# Altium footprint library Connector_Samtec_HLE_SMD.PcbLib: 290 footprints (part 17 of 24)
Each footprint in its own frame and in the unit in brackets; x right, y up, seen from the top. Pads: shape width x height; smd on the part's side, far side on the other; paste and mask are expansions set on the pad; w line width, h text height; cw(c..) or ccw(c..) is an arc to the next point about the centre after c.
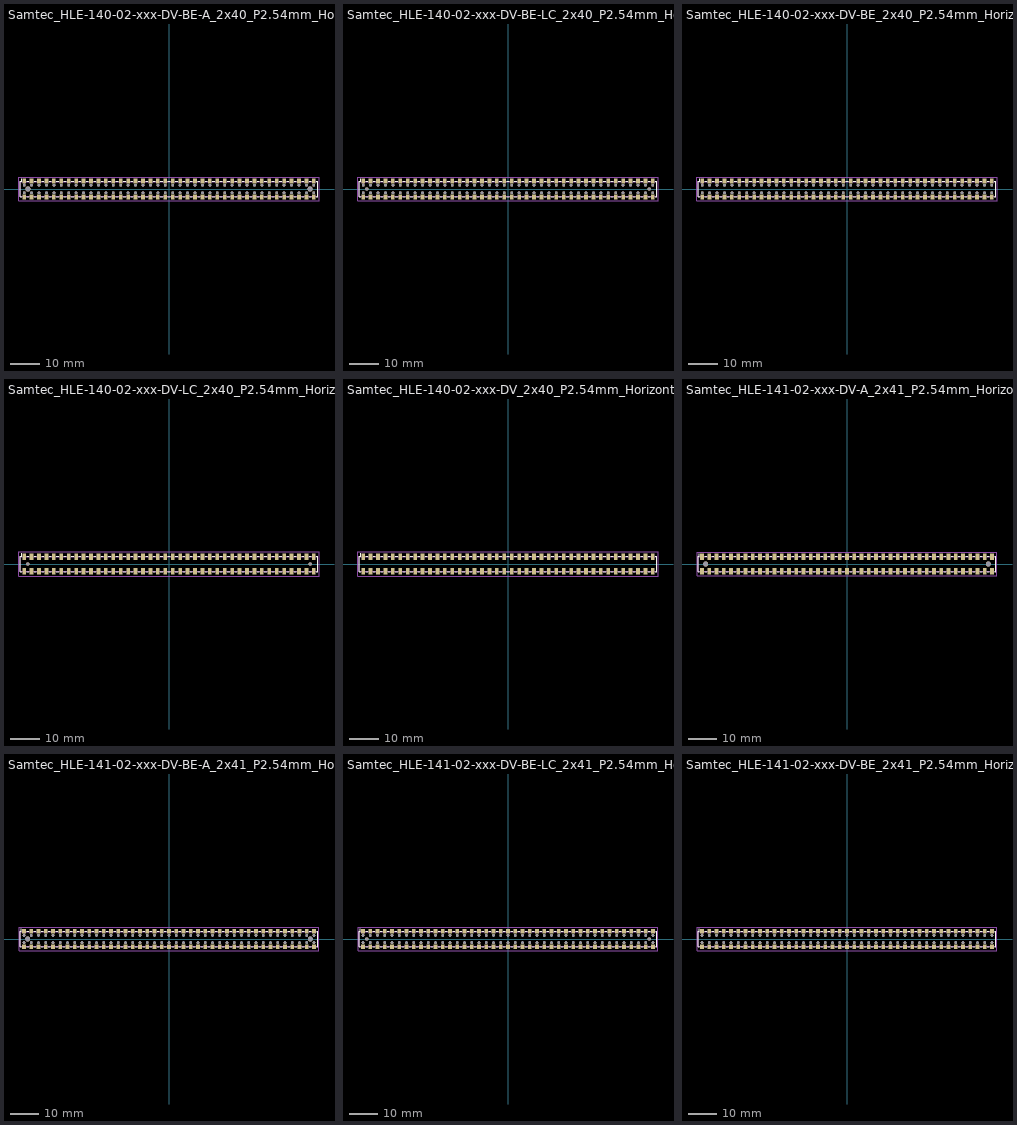
[diagram p16: the footprints below, top view; thin cyan lines are the x and y axes]

## Samtec_HLE-140-02-xxx-DV-BE-A_2x40_P2.54mm_Horizontal [mm]
pads (162):
  rect 1.27x1.68 smd: 1(-49.53,2.72) 2(-49.53,-2.72) 3(-46.99,2.72) 4(-46.99,-2.72) 5(-44.45,2.72) 6(-44.45,-2.72) 7(-41.91,2.72) 8(-41.91,-2.72) 9(-39.37,2.72) 10(-39.37,-2.72) 11(-36.83,2.72) 12(-36.83,-2.72) 13(-34.29,2.72) 14(-34.29,-2.72) 15(-31.75,2.72) 16(-31.75,-2.72) 17(-29.21,2.72) 18(-29.21,-2.72) 19(-26.67,2.72) 20(-26.67,-2.72) 21(-24.13,2.72) 22(-24.13,-2.72) 23(-21.59,2.72) 24(-21.59,-2.72) 25(-19.05,2.72) 26(-19.05,-2.72) 27(-16.51,2.72) 28(-16.51,-2.72) 29(-13.97,2.72) 30(-13.97,-2.72) 31(-11.43,2.72) 32(-11.43,-2.72) 33(-8.89,2.72) 34(-8.89,-2.72) 35(-6.35,2.72) 36(-6.35,-2.72) 37(-3.81,2.72) 38(-3.81,-2.72) 39(-1.27,2.72) 40(-1.27,-2.72) 41(1.27,2.72) 42(1.27,-2.72) 43(3.81,2.72) 44(3.81,-2.72) 45(6.35,2.72) 46(6.35,-2.72) 47(8.89,2.72) 48(8.89,-2.72) 49(11.43,2.72) 50(11.43,-2.72) 51(13.97,2.72) 52(13.97,-2.72) 53(16.51,2.72) 54(16.51,-2.72) 55(19.05,2.72) 56(19.05,-2.72) 57(21.59,2.72) 58(21.59,-2.72) 59(24.13,2.72) 60(24.13,-2.72) 61(26.67,2.72) 62(26.67,-2.72) 63(29.21,2.72) 64(29.21,-2.72) 65(31.75,2.72) 66(31.75,-2.72) 67(34.29,2.72) 68(34.29,-2.72) 69(36.83,2.72) 70(36.83,-2.72) 71(39.37,2.72) 72(39.37,-2.72) 73(41.91,2.72) 74(41.91,-2.72) 75(44.45,2.72) 76(44.45,-2.72) 77(46.99,2.72) 78(46.99,-2.72) 79(49.53,2.72) 80(49.53,-2.72)
  round 0.97 hole 0.97: Un1(-49.53,1.27) Un2(-49.53,-1.27) Un4(-46.99,1.27) Un5(-46.99,-1.27) Un6(-44.45,1.27) Un7(-44.45,-1.27) Un8(-41.91,1.27) Un9(-41.91,-1.27) Un10(-39.37,1.27) Un11(-39.37,-1.27) Un12(-36.83,1.27) Un13(-36.83,-1.27) Un14(-34.29,1.27) Un15(-34.29,-1.27) Un16(-31.75,1.27) Un17(-31.75,-1.27) Un18(-29.21,1.27) Un19(-29.21,-1.27) Un20(-26.67,1.27) Un21(-26.67,-1.27) Un22(-24.13,1.27) Un23(-24.13,-1.27) Un24(-21.59,1.27) Un25(-21.59,-1.27) Un26(-19.05,1.27) Un27(-19.05,-1.27) Un28(-16.51,1.27) Un29(-16.51,-1.27) Un30(-13.97,1.27) Un31(-13.97,-1.27) Un32(-11.43,1.27) Un33(-11.43,-1.27) Un34(-8.89,1.27) Un35(-8.89,-1.27) Un36(-6.35,1.27) Un37(-6.35,-1.27) Un38(-3.81,1.27) Un39(-3.81,-1.27) Un40(-1.27,1.27) Un41(-1.27,-1.27) Un42(1.27,1.27) Un43(1.27,-1.27) Un44(3.81,1.27) Un45(3.81,-1.27) Un46(6.35,1.27) Un47(6.35,-1.27) Un48(8.89,1.27) Un49(8.89,-1.27) Un50(11.43,1.27) Un51(11.43,-1.27) Un52(13.97,1.27) Un53(13.97,-1.27) Un54(16.51,1.27) Un55(16.51,-1.27) Un56(19.05,1.27) Un57(19.05,-1.27) Un58(21.59,1.27) Un59(21.59,-1.27) Un60(24.13,1.27) Un61(24.13,-1.27) Un62(26.67,1.27) Un63(26.67,-1.27) Un64(29.21,1.27) Un65(29.21,-1.27) Un66(31.75,1.27) Un67(31.75,-1.27) Un68(34.29,1.27) Un69(34.29,-1.27) Un70(36.83,1.27) Un71(36.83,-1.27) Un72(39.37,1.27) Un73(39.37,-1.27) Un74(41.91,1.27) Un75(41.91,-1.27) Un76(44.45,1.27) Un77(44.45,-1.27) Un78(46.99,1.27) Un79(46.99,-1.27) Un81(49.53,1.27) Un82(49.53,-1.27)
  round 1.78 hole 1.78: Un3(-48.26,0) Un80(48.26,0)
F.SilkS:
  lines w0.254: -50.425,-2.65 -50.91,-2.65 -50.91,2.65 -50.425,2.65 -50.425,3.56 ; -48.635,-2.65 -47.885,-2.65 ; -48.635,2.65 -47.885,2.65 ; -46.095,-2.65 -45.345,-2.65 ; -46.095,2.65 -45.345,2.65 ; -43.555,-2.65 -42.805,-2.65 ; -43.555,2.65 -42.805,2.65 ; -41.015,-2.65 -40.265,-2.65 ; -41.015,2.65 -40.265,2.65 ; -38.475,-2.65 -37.725,-2.65 ; -38.475,2.65 -37.725,2.65 ; -35.935,-2.65 -35.185,-2.65 ; -35.935,2.65 -35.185,2.65 ; -33.395,-2.65 -32.645,-2.65 ; -33.395,2.65 -32.645,2.65 ; -30.855,-2.65 -30.105,-2.65 ; -30.855,2.65 -30.105,2.65 ; -28.315,-2.65 -27.565,-2.65 ; -28.315,2.65 -27.565,2.65 ; -25.775,-2.65 -25.025,-2.65 ; -25.775,2.65 -25.025,2.65 ; -23.235,-2.65 -22.485,-2.65 ; -23.235,2.65 -22.485,2.65 ; -20.695,-2.65 -19.945,-2.65 ; -20.695,2.65 -19.945,2.65 ; -18.155,-2.65 -17.405,-2.65 ; -18.155,2.65 -17.405,2.65 ; -15.615,-2.65 -14.865,-2.65 ; -15.615,2.65 -14.865,2.65 ; -13.075,-2.65 -12.325,-2.65 ; -13.075,2.65 -12.325,2.65 ; -10.535,-2.65 -9.785,-2.65 ; -10.535,2.65 -9.785,2.65 ; -7.995,-2.65 -7.245,-2.65 ; -7.995,2.65 -7.245,2.65 ; -5.455,-2.65 -4.705,-2.65 ; -5.455,2.65 -4.705,2.65 ; -2.915,-2.65 -2.165,-2.65 ; -2.915,2.65 -2.165,2.65 ; -0.375,-2.65 0.375,-2.65 ; -0.375,2.65 0.375,2.65 ; 2.165,-2.65 2.915,-2.65 ; 2.165,2.65 2.915,2.65 ; 4.705,-2.65 5.455,-2.65 ; 4.705,2.65 5.455,2.65 ; 7.245,-2.65 7.995,-2.65 ; 7.245,2.65 7.995,2.65 ; 9.785,-2.65 10.535,-2.65 ; 9.785,2.65 10.535,2.65 ; 12.325,-2.65 13.075,-2.65 ; 12.325,2.65 13.075,2.65 ; 14.865,-2.65 15.615,-2.65 ; 14.865,2.65 15.615,2.65 ; 17.405,-2.65 18.155,-2.65 ; 17.405,2.65 18.155,2.65 ; 19.945,-2.65 20.695,-2.65 ; 19.945,2.65 20.695,2.65 ; 22.485,-2.65 23.235,-2.65 ; 22.485,2.65 23.235,2.65 ; 25.025,-2.65 25.775,-2.65 ; 25.025,2.65 25.775,2.65 ; 27.565,-2.65 28.315,-2.65 ; 27.565,2.65 28.315,2.65 ; 30.105,-2.65 30.855,-2.65 ; 30.105,2.65 30.855,2.65 ; 32.645,-2.65 33.395,-2.65 ; 32.645,2.65 33.395,2.65 ; 35.185,-2.65 35.935,-2.65 ; 35.185,2.65 35.935,2.65 ; 37.725,-2.65 38.475,-2.65 ; 37.725,2.65 38.475,2.65 ; 40.265,-2.65 41.015,-2.65 ; 40.265,2.65 41.015,2.65 ; 42.805,-2.65 43.555,-2.65 ; 42.805,2.65 43.555,2.65 ; 45.345,-2.65 46.095,-2.65 ; 45.345,2.65 46.095,2.65 ; 47.885,-2.65 48.635,-2.65 ; 47.885,2.65 48.635,2.65 ; 50.425,-2.65 50.91,-2.65 50.91,2.65 50.425,2.65
Top Assembly:
  lines w0.254: -50.03,2.54 -49.53,1.833 -49.03,2.54 ; -50.8,-2.54 50.8,-2.54 50.8,2.54 -50.8,2.54 -50.8,-2.54
  text "'.Designator'" at -4.047,-2.68 h1
Top Courtyard:
  lines w0.254: -51.3,-4.07 51.3,-4.07 51.3,4.07 -51.3,4.07 -51.3,-4.07
Top Designator:
  text ".Designator" at -7.618,-0.508 h1.52

## Samtec_HLE-140-02-xxx-DV-BE-LC_2x40_P2.54mm_Horizontal [mm]
pads (162):
  rect 1.27x1.68 smd: 1(-49.53,2.72) 2(-49.53,-2.72) 3(-46.99,2.72) 4(-46.99,-2.72) 5(-44.45,2.72) 6(-44.45,-2.72) 7(-41.91,2.72) 8(-41.91,-2.72) 9(-39.37,2.72) 10(-39.37,-2.72) 11(-36.83,2.72) 12(-36.83,-2.72) 13(-34.29,2.72) 14(-34.29,-2.72) 15(-31.75,2.72) 16(-31.75,-2.72) 17(-29.21,2.72) 18(-29.21,-2.72) 19(-26.67,2.72) 20(-26.67,-2.72) 21(-24.13,2.72) 22(-24.13,-2.72) 23(-21.59,2.72) 24(-21.59,-2.72) 25(-19.05,2.72) 26(-19.05,-2.72) 27(-16.51,2.72) 28(-16.51,-2.72) 29(-13.97,2.72) 30(-13.97,-2.72) 31(-11.43,2.72) 32(-11.43,-2.72) 33(-8.89,2.72) 34(-8.89,-2.72) 35(-6.35,2.72) 36(-6.35,-2.72) 37(-3.81,2.72) 38(-3.81,-2.72) 39(-1.27,2.72) 40(-1.27,-2.72) 41(1.27,2.72) 42(1.27,-2.72) 43(3.81,2.72) 44(3.81,-2.72) 45(6.35,2.72) 46(6.35,-2.72) 47(8.89,2.72) 48(8.89,-2.72) 49(11.43,2.72) 50(11.43,-2.72) 51(13.97,2.72) 52(13.97,-2.72) 53(16.51,2.72) 54(16.51,-2.72) 55(19.05,2.72) 56(19.05,-2.72) 57(21.59,2.72) 58(21.59,-2.72) 59(24.13,2.72) 60(24.13,-2.72) 61(26.67,2.72) 62(26.67,-2.72) 63(29.21,2.72) 64(29.21,-2.72) 65(31.75,2.72) 66(31.75,-2.72) 67(34.29,2.72) 68(34.29,-2.72) 69(36.83,2.72) 70(36.83,-2.72) 71(39.37,2.72) 72(39.37,-2.72) 73(41.91,2.72) 74(41.91,-2.72) 75(44.45,2.72) 76(44.45,-2.72) 77(46.99,2.72) 78(46.99,-2.72) 79(49.53,2.72) 80(49.53,-2.72)
  round 0.97 hole 0.97: Un1(-49.53,1.27) Un2(-49.53,-1.27) Un4(-46.99,1.27) Un5(-46.99,-1.27) Un6(-44.45,1.27) Un7(-44.45,-1.27) Un8(-41.91,1.27) Un9(-41.91,-1.27) Un10(-39.37,1.27) Un11(-39.37,-1.27) Un12(-36.83,1.27) Un13(-36.83,-1.27) Un14(-34.29,1.27) Un15(-34.29,-1.27) Un16(-31.75,1.27) Un17(-31.75,-1.27) Un18(-29.21,1.27) Un19(-29.21,-1.27) Un20(-26.67,1.27) Un21(-26.67,-1.27) Un22(-24.13,1.27) Un23(-24.13,-1.27) Un24(-21.59,1.27) Un25(-21.59,-1.27) Un26(-19.05,1.27) Un27(-19.05,-1.27) Un28(-16.51,1.27) Un29(-16.51,-1.27) Un30(-13.97,1.27) Un31(-13.97,-1.27) Un32(-11.43,1.27) Un33(-11.43,-1.27) Un34(-8.89,1.27) Un35(-8.89,-1.27) Un36(-6.35,1.27) Un37(-6.35,-1.27) Un38(-3.81,1.27) Un39(-3.81,-1.27) Un40(-1.27,1.27) Un41(-1.27,-1.27) Un42(1.27,1.27) Un43(1.27,-1.27) Un44(3.81,1.27) Un45(3.81,-1.27) Un46(6.35,1.27) Un47(6.35,-1.27) Un48(8.89,1.27) Un49(8.89,-1.27) Un50(11.43,1.27) Un51(11.43,-1.27) Un52(13.97,1.27) Un53(13.97,-1.27) Un54(16.51,1.27) Un55(16.51,-1.27) Un56(19.05,1.27) Un57(19.05,-1.27) Un58(21.59,1.27) Un59(21.59,-1.27) Un60(24.13,1.27) Un61(24.13,-1.27) Un62(26.67,1.27) Un63(26.67,-1.27) Un64(29.21,1.27) Un65(29.21,-1.27) Un66(31.75,1.27) Un67(31.75,-1.27) Un68(34.29,1.27) Un69(34.29,-1.27) Un70(36.83,1.27) Un71(36.83,-1.27) Un72(39.37,1.27) Un73(39.37,-1.27) Un74(41.91,1.27) Un75(41.91,-1.27) Un76(44.45,1.27) Un77(44.45,-1.27) Un78(46.99,1.27) Un79(46.99,-1.27) Un81(49.53,1.27) Un82(49.53,-1.27)
  round 1.19 hole 1.19: Un3(-48.26,0) Un80(48.26,0)
F.SilkS:
  lines w0.254: -50.425,-2.65 -50.91,-2.65 -50.91,2.65 -50.425,2.65 -50.425,3.56 ; -48.635,-2.65 -47.885,-2.65 ; -48.635,2.65 -47.885,2.65 ; -46.095,-2.65 -45.345,-2.65 ; -46.095,2.65 -45.345,2.65 ; -43.555,-2.65 -42.805,-2.65 ; -43.555,2.65 -42.805,2.65 ; -41.015,-2.65 -40.265,-2.65 ; -41.015,2.65 -40.265,2.65 ; -38.475,-2.65 -37.725,-2.65 ; -38.475,2.65 -37.725,2.65 ; -35.935,-2.65 -35.185,-2.65 ; -35.935,2.65 -35.185,2.65 ; -33.395,-2.65 -32.645,-2.65 ; -33.395,2.65 -32.645,2.65 ; -30.855,-2.65 -30.105,-2.65 ; -30.855,2.65 -30.105,2.65 ; -28.315,-2.65 -27.565,-2.65 ; -28.315,2.65 -27.565,2.65 ; -25.775,-2.65 -25.025,-2.65 ; -25.775,2.65 -25.025,2.65 ; -23.235,-2.65 -22.485,-2.65 ; -23.235,2.65 -22.485,2.65 ; -20.695,-2.65 -19.945,-2.65 ; -20.695,2.65 -19.945,2.65 ; -18.155,-2.65 -17.405,-2.65 ; -18.155,2.65 -17.405,2.65 ; -15.615,-2.65 -14.865,-2.65 ; -15.615,2.65 -14.865,2.65 ; -13.075,-2.65 -12.325,-2.65 ; -13.075,2.65 -12.325,2.65 ; -10.535,-2.65 -9.785,-2.65 ; -10.535,2.65 -9.785,2.65 ; -7.995,-2.65 -7.245,-2.65 ; -7.995,2.65 -7.245,2.65 ; -5.455,-2.65 -4.705,-2.65 ; -5.455,2.65 -4.705,2.65 ; -2.915,-2.65 -2.165,-2.65 ; -2.915,2.65 -2.165,2.65 ; -0.375,-2.65 0.375,-2.65 ; -0.375,2.65 0.375,2.65 ; 2.165,-2.65 2.915,-2.65 ; 2.165,2.65 2.915,2.65 ; 4.705,-2.65 5.455,-2.65 ; 4.705,2.65 5.455,2.65 ; 7.245,-2.65 7.995,-2.65 ; 7.245,2.65 7.995,2.65 ; 9.785,-2.65 10.535,-2.65 ; 9.785,2.65 10.535,2.65 ; 12.325,-2.65 13.075,-2.65 ; 12.325,2.65 13.075,2.65 ; 14.865,-2.65 15.615,-2.65 ; 14.865,2.65 15.615,2.65 ; 17.405,-2.65 18.155,-2.65 ; 17.405,2.65 18.155,2.65 ; 19.945,-2.65 20.695,-2.65 ; 19.945,2.65 20.695,2.65 ; 22.485,-2.65 23.235,-2.65 ; 22.485,2.65 23.235,2.65 ; 25.025,-2.65 25.775,-2.65 ; 25.025,2.65 25.775,2.65 ; 27.565,-2.65 28.315,-2.65 ; 27.565,2.65 28.315,2.65 ; 30.105,-2.65 30.855,-2.65 ; 30.105,2.65 30.855,2.65 ; 32.645,-2.65 33.395,-2.65 ; 32.645,2.65 33.395,2.65 ; 35.185,-2.65 35.935,-2.65 ; 35.185,2.65 35.935,2.65 ; 37.725,-2.65 38.475,-2.65 ; 37.725,2.65 38.475,2.65 ; 40.265,-2.65 41.015,-2.65 ; 40.265,2.65 41.015,2.65 ; 42.805,-2.65 43.555,-2.65 ; 42.805,2.65 43.555,2.65 ; 45.345,-2.65 46.095,-2.65 ; 45.345,2.65 46.095,2.65 ; 47.885,-2.65 48.635,-2.65 ; 47.885,2.65 48.635,2.65 ; 50.425,-2.65 50.91,-2.65 50.91,2.65 50.425,2.65
Top Assembly:
  lines w0.254: -50.03,2.54 -49.53,1.833 -49.03,2.54 ; -50.8,-2.54 50.8,-2.54 50.8,2.54 -50.8,2.54 -50.8,-2.54
  text "'.Designator'" at -4.047,-2.68 h1
Top Courtyard:
  lines w0.254: -51.3,-4.07 51.3,-4.07 51.3,4.07 -51.3,4.07 -51.3,-4.07
Top Designator:
  text ".Designator" at -7.618,-0.508 h1.52

## Samtec_HLE-140-02-xxx-DV-BE_2x40_P2.54mm_Horizontal [mm]
pads (160):
  rect 1.27x1.68 smd: 1(-49.53,2.72) 2(-49.53,-2.72) 3(-46.99,2.72) 4(-46.99,-2.72) 5(-44.45,2.72) 6(-44.45,-2.72) 7(-41.91,2.72) 8(-41.91,-2.72) 9(-39.37,2.72) 10(-39.37,-2.72) 11(-36.83,2.72) 12(-36.83,-2.72) 13(-34.29,2.72) 14(-34.29,-2.72) 15(-31.75,2.72) 16(-31.75,-2.72) 17(-29.21,2.72) 18(-29.21,-2.72) 19(-26.67,2.72) 20(-26.67,-2.72) 21(-24.13,2.72) 22(-24.13,-2.72) 23(-21.59,2.72) 24(-21.59,-2.72) 25(-19.05,2.72) 26(-19.05,-2.72) 27(-16.51,2.72) 28(-16.51,-2.72) 29(-13.97,2.72) 30(-13.97,-2.72) 31(-11.43,2.72) 32(-11.43,-2.72) 33(-8.89,2.72) 34(-8.89,-2.72) 35(-6.35,2.72) 36(-6.35,-2.72) 37(-3.81,2.72) 38(-3.81,-2.72) 39(-1.27,2.72) 40(-1.27,-2.72) 41(1.27,2.72) 42(1.27,-2.72) 43(3.81,2.72) 44(3.81,-2.72) 45(6.35,2.72) 46(6.35,-2.72) 47(8.89,2.72) 48(8.89,-2.72) 49(11.43,2.72) 50(11.43,-2.72) 51(13.97,2.72) 52(13.97,-2.72) 53(16.51,2.72) 54(16.51,-2.72) 55(19.05,2.72) 56(19.05,-2.72) 57(21.59,2.72) 58(21.59,-2.72) 59(24.13,2.72) 60(24.13,-2.72) 61(26.67,2.72) 62(26.67,-2.72) 63(29.21,2.72) 64(29.21,-2.72) 65(31.75,2.72) 66(31.75,-2.72) 67(34.29,2.72) 68(34.29,-2.72) 69(36.83,2.72) 70(36.83,-2.72) 71(39.37,2.72) 72(39.37,-2.72) 73(41.91,2.72) 74(41.91,-2.72) 75(44.45,2.72) 76(44.45,-2.72) 77(46.99,2.72) 78(46.99,-2.72) 79(49.53,2.72) 80(49.53,-2.72)
  round 0.97 hole 0.97: Un1(-49.53,1.27) Un2(-49.53,-1.27) Un3(-46.99,1.27) Un4(-46.99,-1.27) Un5(-44.45,1.27) Un6(-44.45,-1.27) Un7(-41.91,1.27) Un8(-41.91,-1.27) Un9(-39.37,1.27) Un10(-39.37,-1.27) Un11(-36.83,1.27) Un12(-36.83,-1.27) Un13(-34.29,1.27) Un14(-34.29,-1.27) Un15(-31.75,1.27) Un16(-31.75,-1.27) Un17(-29.21,1.27) Un18(-29.21,-1.27) Un19(-26.67,1.27) Un20(-26.67,-1.27) Un21(-24.13,1.27) Un22(-24.13,-1.27) Un23(-21.59,1.27) Un24(-21.59,-1.27) Un25(-19.05,1.27) Un26(-19.05,-1.27) Un27(-16.51,1.27) Un28(-16.51,-1.27) Un29(-13.97,1.27) Un30(-13.97,-1.27) Un31(-11.43,1.27) Un32(-11.43,-1.27) Un33(-8.89,1.27) Un34(-8.89,-1.27) Un35(-6.35,1.27) Un36(-6.35,-1.27) Un37(-3.81,1.27) Un38(-3.81,-1.27) Un39(-1.27,1.27) Un40(-1.27,-1.27) Un41(1.27,1.27) Un42(1.27,-1.27) Un43(3.81,1.27) Un44(3.81,-1.27) Un45(6.35,1.27) Un46(6.35,-1.27) Un47(8.89,1.27) Un48(8.89,-1.27) Un49(11.43,1.27) Un50(11.43,-1.27) Un51(13.97,1.27) Un52(13.97,-1.27) Un53(16.51,1.27) Un54(16.51,-1.27) Un55(19.05,1.27) Un56(19.05,-1.27) Un57(21.59,1.27) Un58(21.59,-1.27) Un59(24.13,1.27) Un60(24.13,-1.27) Un61(26.67,1.27) Un62(26.67,-1.27) Un63(29.21,1.27) Un64(29.21,-1.27) Un65(31.75,1.27) Un66(31.75,-1.27) Un67(34.29,1.27) Un68(34.29,-1.27) Un69(36.83,1.27) Un70(36.83,-1.27) Un71(39.37,1.27) Un72(39.37,-1.27) Un73(41.91,1.27) Un74(41.91,-1.27) Un75(44.45,1.27) Un76(44.45,-1.27) Un77(46.99,1.27) Un78(46.99,-1.27) Un79(49.53,1.27) Un80(49.53,-1.27)
F.SilkS:
  lines w0.254: -50.425,-2.65 -50.91,-2.65 -50.91,2.65 -50.425,2.65 -50.425,3.56 ; -48.635,-2.65 -47.885,-2.65 ; -48.635,2.65 -47.885,2.65 ; -46.095,-2.65 -45.345,-2.65 ; -46.095,2.65 -45.345,2.65 ; -43.555,-2.65 -42.805,-2.65 ; -43.555,2.65 -42.805,2.65 ; -41.015,-2.65 -40.265,-2.65 ; -41.015,2.65 -40.265,2.65 ; -38.475,-2.65 -37.725,-2.65 ; -38.475,2.65 -37.725,2.65 ; -35.935,-2.65 -35.185,-2.65 ; -35.935,2.65 -35.185,2.65 ; -33.395,-2.65 -32.645,-2.65 ; -33.395,2.65 -32.645,2.65 ; -30.855,-2.65 -30.105,-2.65 ; -30.855,2.65 -30.105,2.65 ; -28.315,-2.65 -27.565,-2.65 ; -28.315,2.65 -27.565,2.65 ; -25.775,-2.65 -25.025,-2.65 ; -25.775,2.65 -25.025,2.65 ; -23.235,-2.65 -22.485,-2.65 ; -23.235,2.65 -22.485,2.65 ; -20.695,-2.65 -19.945,-2.65 ; -20.695,2.65 -19.945,2.65 ; -18.155,-2.65 -17.405,-2.65 ; -18.155,2.65 -17.405,2.65 ; -15.615,-2.65 -14.865,-2.65 ; -15.615,2.65 -14.865,2.65 ; -13.075,-2.65 -12.325,-2.65 ; -13.075,2.65 -12.325,2.65 ; -10.535,-2.65 -9.785,-2.65 ; -10.535,2.65 -9.785,2.65 ; -7.995,-2.65 -7.245,-2.65 ; -7.995,2.65 -7.245,2.65 ; -5.455,-2.65 -4.705,-2.65 ; -5.455,2.65 -4.705,2.65 ; -2.915,-2.65 -2.165,-2.65 ; -2.915,2.65 -2.165,2.65 ; -0.375,-2.65 0.375,-2.65 ; -0.375,2.65 0.375,2.65 ; 2.165,-2.65 2.915,-2.65 ; 2.165,2.65 2.915,2.65 ; 4.705,-2.65 5.455,-2.65 ; 4.705,2.65 5.455,2.65 ; 7.245,-2.65 7.995,-2.65 ; 7.245,2.65 7.995,2.65 ; 9.785,-2.65 10.535,-2.65 ; 9.785,2.65 10.535,2.65 ; 12.325,-2.65 13.075,-2.65 ; 12.325,2.65 13.075,2.65 ; 14.865,-2.65 15.615,-2.65 ; 14.865,2.65 15.615,2.65 ; 17.405,-2.65 18.155,-2.65 ; 17.405,2.65 18.155,2.65 ; 19.945,-2.65 20.695,-2.65 ; 19.945,2.65 20.695,2.65 ; 22.485,-2.65 23.235,-2.65 ; 22.485,2.65 23.235,2.65 ; 25.025,-2.65 25.775,-2.65 ; 25.025,2.65 25.775,2.65 ; 27.565,-2.65 28.315,-2.65 ; 27.565,2.65 28.315,2.65 ; 30.105,-2.65 30.855,-2.65 ; 30.105,2.65 30.855,2.65 ; 32.645,-2.65 33.395,-2.65 ; 32.645,2.65 33.395,2.65 ; 35.185,-2.65 35.935,-2.65 ; 35.185,2.65 35.935,2.65 ; 37.725,-2.65 38.475,-2.65 ; 37.725,2.65 38.475,2.65 ; 40.265,-2.65 41.015,-2.65 ; 40.265,2.65 41.015,2.65 ; 42.805,-2.65 43.555,-2.65 ; 42.805,2.65 43.555,2.65 ; 45.345,-2.65 46.095,-2.65 ; 45.345,2.65 46.095,2.65 ; 47.885,-2.65 48.635,-2.65 ; 47.885,2.65 48.635,2.65 ; 50.425,-2.65 50.91,-2.65 50.91,2.65 50.425,2.65
Top Assembly:
  lines w0.254: -50.03,2.54 -49.53,1.833 -49.03,2.54 ; -50.8,-2.54 50.8,-2.54 50.8,2.54 -50.8,2.54 -50.8,-2.54
  text "'.Designator'" at -4.047,-2.68 h1
Top Courtyard:
  lines w0.254: -51.3,-4.07 51.3,-4.07 51.3,4.07 -51.3,4.07 -51.3,-4.07
Top Designator:
  text ".Designator" at -7.618,-0.508 h1.52

## Samtec_HLE-140-02-xxx-DV-LC_2x40_P2.54mm_Horizontal [mm]
pads (82):
  rect 1.27x2.29 smd: 1(-49.53,2.525) 2(-49.53,-2.525) 3(-46.99,2.525) 4(-46.99,-2.525) 5(-44.45,2.525) 6(-44.45,-2.525) 7(-41.91,2.525) 8(-41.91,-2.525) 9(-39.37,2.525) 10(-39.37,-2.525) 11(-36.83,2.525) 12(-36.83,-2.525) 13(-34.29,2.525) 14(-34.29,-2.525) 15(-31.75,2.525) 16(-31.75,-2.525) 17(-29.21,2.525) 18(-29.21,-2.525) 19(-26.67,2.525) 20(-26.67,-2.525) 21(-24.13,2.525) 22(-24.13,-2.525) 23(-21.59,2.525) 24(-21.59,-2.525) 25(-19.05,2.525) 26(-19.05,-2.525) 27(-16.51,2.525) 28(-16.51,-2.525) 29(-13.97,2.525) 30(-13.97,-2.525) 31(-11.43,2.525) 32(-11.43,-2.525) 33(-8.89,2.525) 34(-8.89,-2.525) 35(-6.35,2.525) 36(-6.35,-2.525) 37(-3.81,2.525) 38(-3.81,-2.525) 39(-1.27,2.525) 40(-1.27,-2.525) 41(1.27,2.525) 42(1.27,-2.525) 43(3.81,2.525) 44(3.81,-2.525) 45(6.35,2.525) 46(6.35,-2.525) 47(8.89,2.525) 48(8.89,-2.525) 49(11.43,2.525) 50(11.43,-2.525) 51(13.97,2.525) 52(13.97,-2.525) 53(16.51,2.525) 54(16.51,-2.525) 55(19.05,2.525) 56(19.05,-2.525) 57(21.59,2.525) 58(21.59,-2.525) 59(24.13,2.525) 60(24.13,-2.525) 61(26.67,2.525) 62(26.67,-2.525) 63(29.21,2.525) 64(29.21,-2.525) 65(31.75,2.525) 66(31.75,-2.525) 67(34.29,2.525) 68(34.29,-2.525) 69(36.83,2.525) 70(36.83,-2.525) 71(39.37,2.525) 72(39.37,-2.525) 73(41.91,2.525) 74(41.91,-2.525) 75(44.45,2.525) 76(44.45,-2.525) 77(46.99,2.525) 78(46.99,-2.525) 79(49.53,2.525) 80(49.53,-2.525)
  round 1.19 hole 1.19: Un1(-48.26,0) Un2(48.26,0)
F.SilkS:
  lines w0.254: -50.425,-2.65 -50.91,-2.65 -50.91,2.65 -50.425,2.65 -50.425,3.67 ; -48.635,-2.65 -47.885,-2.65 ; -48.635,2.65 -47.885,2.65 ; -46.095,-2.65 -45.345,-2.65 ; -46.095,2.65 -45.345,2.65 ; -43.555,-2.65 -42.805,-2.65 ; -43.555,2.65 -42.805,2.65 ; -41.015,-2.65 -40.265,-2.65 ; -41.015,2.65 -40.265,2.65 ; -38.475,-2.65 -37.725,-2.65 ; -38.475,2.65 -37.725,2.65 ; -35.935,-2.65 -35.185,-2.65 ; -35.935,2.65 -35.185,2.65 ; -33.395,-2.65 -32.645,-2.65 ; -33.395,2.65 -32.645,2.65 ; -30.855,-2.65 -30.105,-2.65 ; -30.855,2.65 -30.105,2.65 ; -28.315,-2.65 -27.565,-2.65 ; -28.315,2.65 -27.565,2.65 ; -25.775,-2.65 -25.025,-2.65 ; -25.775,2.65 -25.025,2.65 ; -23.235,-2.65 -22.485,-2.65 ; -23.235,2.65 -22.485,2.65 ; -20.695,-2.65 -19.945,-2.65 ; -20.695,2.65 -19.945,2.65 ; -18.155,-2.65 -17.405,-2.65 ; -18.155,2.65 -17.405,2.65 ; -15.615,-2.65 -14.865,-2.65 ; -15.615,2.65 -14.865,2.65 ; -13.075,-2.65 -12.325,-2.65 ; -13.075,2.65 -12.325,2.65 ; -10.535,-2.65 -9.785,-2.65 ; -10.535,2.65 -9.785,2.65 ; -7.995,-2.65 -7.245,-2.65 ; -7.995,2.65 -7.245,2.65 ; -5.455,-2.65 -4.705,-2.65 ; -5.455,2.65 -4.705,2.65 ; -2.915,-2.65 -2.165,-2.65 ; -2.915,2.65 -2.165,2.65 ; -0.375,-2.65 0.375,-2.65 ; -0.375,2.65 0.375,2.65 ; 2.165,-2.65 2.915,-2.65 ; 2.165,2.65 2.915,2.65 ; 4.705,-2.65 5.455,-2.65 ; 4.705,2.65 5.455,2.65 ; 7.245,-2.65 7.995,-2.65 ; 7.245,2.65 7.995,2.65 ; 9.785,-2.65 10.535,-2.65 ; 9.785,2.65 10.535,2.65 ; 12.325,-2.65 13.075,-2.65 ; 12.325,2.65 13.075,2.65 ; 14.865,-2.65 15.615,-2.65 ; 14.865,2.65 15.615,2.65 ; 17.405,-2.65 18.155,-2.65 ; 17.405,2.65 18.155,2.65 ; 19.945,-2.65 20.695,-2.65 ; 19.945,2.65 20.695,2.65 ; 22.485,-2.65 23.235,-2.65 ; 22.485,2.65 23.235,2.65 ; 25.025,-2.65 25.775,-2.65 ; 25.025,2.65 25.775,2.65 ; 27.565,-2.65 28.315,-2.65 ; 27.565,2.65 28.315,2.65 ; 30.105,-2.65 30.855,-2.65 ; 30.105,2.65 30.855,2.65 ; 32.645,-2.65 33.395,-2.65 ; 32.645,2.65 33.395,2.65 ; 35.185,-2.65 35.935,-2.65 ; 35.185,2.65 35.935,2.65 ; 37.725,-2.65 38.475,-2.65 ; 37.725,2.65 38.475,2.65 ; 40.265,-2.65 41.015,-2.65 ; 40.265,2.65 41.015,2.65 ; 42.805,-2.65 43.555,-2.65 ; 42.805,2.65 43.555,2.65 ; 45.345,-2.65 46.095,-2.65 ; 45.345,2.65 46.095,2.65 ; 47.885,-2.65 48.635,-2.65 ; 47.885,2.65 48.635,2.65 ; 50.425,-2.65 50.91,-2.65 50.91,2.65 50.425,2.65
Top Assembly:
  lines w0.254: -50.03,2.54 -49.53,1.833 -49.03,2.54 ; -50.8,-2.54 50.8,-2.54 50.8,2.54 -50.8,2.54 -50.8,-2.54
  text "'.Designator'" at -4.047,-2.68 h1
Top Courtyard:
  lines w0.254: -51.3,-4.17 51.3,-4.17 51.3,4.17 -51.3,4.17 -51.3,-4.17
Top Designator:
  text ".Designator" at -7.618,-0.508 h1.52

## Samtec_HLE-140-02-xxx-DV_2x40_P2.54mm_Horizontal [mm]
pads (80):
  rect 1.27x2.29 smd: 1(-49.53,2.525) 2(-49.53,-2.525) 3(-46.99,2.525) 4(-46.99,-2.525) 5(-44.45,2.525) 6(-44.45,-2.525) 7(-41.91,2.525) 8(-41.91,-2.525) 9(-39.37,2.525) 10(-39.37,-2.525) 11(-36.83,2.525) 12(-36.83,-2.525) 13(-34.29,2.525) 14(-34.29,-2.525) 15(-31.75,2.525) 16(-31.75,-2.525) 17(-29.21,2.525) 18(-29.21,-2.525) 19(-26.67,2.525) 20(-26.67,-2.525) 21(-24.13,2.525) 22(-24.13,-2.525) 23(-21.59,2.525) 24(-21.59,-2.525) 25(-19.05,2.525) 26(-19.05,-2.525) 27(-16.51,2.525) 28(-16.51,-2.525) 29(-13.97,2.525) 30(-13.97,-2.525) 31(-11.43,2.525) 32(-11.43,-2.525) 33(-8.89,2.525) 34(-8.89,-2.525) 35(-6.35,2.525) 36(-6.35,-2.525) 37(-3.81,2.525) 38(-3.81,-2.525) 39(-1.27,2.525) 40(-1.27,-2.525) 41(1.27,2.525) 42(1.27,-2.525) 43(3.81,2.525) 44(3.81,-2.525) 45(6.35,2.525) 46(6.35,-2.525) 47(8.89,2.525) 48(8.89,-2.525) 49(11.43,2.525) 50(11.43,-2.525) 51(13.97,2.525) 52(13.97,-2.525) 53(16.51,2.525) 54(16.51,-2.525) 55(19.05,2.525) 56(19.05,-2.525) 57(21.59,2.525) 58(21.59,-2.525) 59(24.13,2.525) 60(24.13,-2.525) 61(26.67,2.525) 62(26.67,-2.525) 63(29.21,2.525) 64(29.21,-2.525) 65(31.75,2.525) 66(31.75,-2.525) 67(34.29,2.525) 68(34.29,-2.525) 69(36.83,2.525) 70(36.83,-2.525) 71(39.37,2.525) 72(39.37,-2.525) 73(41.91,2.525) 74(41.91,-2.525) 75(44.45,2.525) 76(44.45,-2.525) 77(46.99,2.525) 78(46.99,-2.525) 79(49.53,2.525) 80(49.53,-2.525)
F.SilkS:
  lines w0.254: -50.425,-2.65 -50.91,-2.65 -50.91,2.65 -50.425,2.65 -50.425,3.67 ; -48.635,-2.65 -47.885,-2.65 ; -48.635,2.65 -47.885,2.65 ; -46.095,-2.65 -45.345,-2.65 ; -46.095,2.65 -45.345,2.65 ; -43.555,-2.65 -42.805,-2.65 ; -43.555,2.65 -42.805,2.65 ; -41.015,-2.65 -40.265,-2.65 ; -41.015,2.65 -40.265,2.65 ; -38.475,-2.65 -37.725,-2.65 ; -38.475,2.65 -37.725,2.65 ; -35.935,-2.65 -35.185,-2.65 ; -35.935,2.65 -35.185,2.65 ; -33.395,-2.65 -32.645,-2.65 ; -33.395,2.65 -32.645,2.65 ; -30.855,-2.65 -30.105,-2.65 ; -30.855,2.65 -30.105,2.65 ; -28.315,-2.65 -27.565,-2.65 ; -28.315,2.65 -27.565,2.65 ; -25.775,-2.65 -25.025,-2.65 ; -25.775,2.65 -25.025,2.65 ; -23.235,-2.65 -22.485,-2.65 ; -23.235,2.65 -22.485,2.65 ; -20.695,-2.65 -19.945,-2.65 ; -20.695,2.65 -19.945,2.65 ; -18.155,-2.65 -17.405,-2.65 ; -18.155,2.65 -17.405,2.65 ; -15.615,-2.65 -14.865,-2.65 ; -15.615,2.65 -14.865,2.65 ; -13.075,-2.65 -12.325,-2.65 ; -13.075,2.65 -12.325,2.65 ; -10.535,-2.65 -9.785,-2.65 ; -10.535,2.65 -9.785,2.65 ; -7.995,-2.65 -7.245,-2.65 ; -7.995,2.65 -7.245,2.65 ; -5.455,-2.65 -4.705,-2.65 ; -5.455,2.65 -4.705,2.65 ; -2.915,-2.65 -2.165,-2.65 ; -2.915,2.65 -2.165,2.65 ; -0.375,-2.65 0.375,-2.65 ; -0.375,2.65 0.375,2.65 ; 2.165,-2.65 2.915,-2.65 ; 2.165,2.65 2.915,2.65 ; 4.705,-2.65 5.455,-2.65 ; 4.705,2.65 5.455,2.65 ; 7.245,-2.65 7.995,-2.65 ; 7.245,2.65 7.995,2.65 ; 9.785,-2.65 10.535,-2.65 ; 9.785,2.65 10.535,2.65 ; 12.325,-2.65 13.075,-2.65 ; 12.325,2.65 13.075,2.65 ; 14.865,-2.65 15.615,-2.65 ; 14.865,2.65 15.615,2.65 ; 17.405,-2.65 18.155,-2.65 ; 17.405,2.65 18.155,2.65 ; 19.945,-2.65 20.695,-2.65 ; 19.945,2.65 20.695,2.65 ; 22.485,-2.65 23.235,-2.65 ; 22.485,2.65 23.235,2.65 ; 25.025,-2.65 25.775,-2.65 ; 25.025,2.65 25.775,2.65 ; 27.565,-2.65 28.315,-2.65 ; 27.565,2.65 28.315,2.65 ; 30.105,-2.65 30.855,-2.65 ; 30.105,2.65 30.855,2.65 ; 32.645,-2.65 33.395,-2.65 ; 32.645,2.65 33.395,2.65 ; 35.185,-2.65 35.935,-2.65 ; 35.185,2.65 35.935,2.65 ; 37.725,-2.65 38.475,-2.65 ; 37.725,2.65 38.475,2.65 ; 40.265,-2.65 41.015,-2.65 ; 40.265,2.65 41.015,2.65 ; 42.805,-2.65 43.555,-2.65 ; 42.805,2.65 43.555,2.65 ; 45.345,-2.65 46.095,-2.65 ; 45.345,2.65 46.095,2.65 ; 47.885,-2.65 48.635,-2.65 ; 47.885,2.65 48.635,2.65 ; 50.425,-2.65 50.91,-2.65 50.91,2.65 50.425,2.65
Top Assembly:
  lines w0.254: -50.03,2.54 -49.53,1.833 -49.03,2.54 ; -50.8,-2.54 50.8,-2.54 50.8,2.54 -50.8,2.54 -50.8,-2.54
  text "'.Designator'" at -4.047,-2.68 h1
Top Courtyard:
  lines w0.254: -51.3,-4.17 51.3,-4.17 51.3,4.17 -51.3,4.17 -51.3,-4.17
Top Designator:
  text ".Designator" at -7.618,-0.508 h1.52

## Samtec_HLE-141-02-xxx-DV-A_2x41_P2.54mm_Horizontal [mm]
pads (84):
  rect 1.27x2.29 smd: 1(-50.8,2.525) 2(-50.8,-2.525) 3(-48.26,2.525) 4(-48.26,-2.525) 5(-45.72,2.525) 6(-45.72,-2.525) 7(-43.18,2.525) 8(-43.18,-2.525) 9(-40.64,2.525) 10(-40.64,-2.525) 11(-38.1,2.525) 12(-38.1,-2.525) 13(-35.56,2.525) 14(-35.56,-2.525) 15(-33.02,2.525) 16(-33.02,-2.525) 17(-30.48,2.525) 18(-30.48,-2.525) 19(-27.94,2.525) 20(-27.94,-2.525) 21(-25.4,2.525) 22(-25.4,-2.525) 23(-22.86,2.525) 24(-22.86,-2.525) 25(-20.32,2.525) 26(-20.32,-2.525) 27(-17.78,2.525) 28(-17.78,-2.525) 29(-15.24,2.525) 30(-15.24,-2.525) 31(-12.7,2.525) 32(-12.7,-2.525) 33(-10.16,2.525) 34(-10.16,-2.525) 35(-7.62,2.525) 36(-7.62,-2.525) 37(-5.08,2.525) 38(-5.08,-2.525) 39(-2.54,2.525) 40(-2.54,-2.525) 41(0,2.525) 42(0,-2.525) 43(2.54,2.525) 44(2.54,-2.525) 45(5.08,2.525) 46(5.08,-2.525) 47(7.62,2.525) 48(7.62,-2.525) 49(10.16,2.525) 50(10.16,-2.525) 51(12.7,2.525) 52(12.7,-2.525) 53(15.24,2.525) 54(15.24,-2.525) 55(17.78,2.525) 56(17.78,-2.525) 57(20.32,2.525) 58(20.32,-2.525) 59(22.86,2.525) 60(22.86,-2.525) 61(25.4,2.525) 62(25.4,-2.525) 63(27.94,2.525) 64(27.94,-2.525) 65(30.48,2.525) 66(30.48,-2.525) 67(33.02,2.525) 68(33.02,-2.525) 69(35.56,2.525) 70(35.56,-2.525) 71(38.1,2.525) 72(38.1,-2.525) 73(40.64,2.525) 74(40.64,-2.525) 75(43.18,2.525) 76(43.18,-2.525) 77(45.72,2.525) 78(45.72,-2.525) 79(48.26,2.525) 80(48.26,-2.525) 81(50.8,2.525) 82(50.8,-2.525)
  round 1.78 hole 1.78: Un1(-49.53,0) Un2(49.53,0)
F.SilkS:
  lines w0.254: -51.695,-2.65 -52.18,-2.65 -52.18,2.65 -51.695,2.65 -51.695,3.67 ; -49.905,-2.65 -49.155,-2.65 ; -49.905,2.65 -49.155,2.65 ; -47.365,-2.65 -46.615,-2.65 ; -47.365,2.65 -46.615,2.65 ; -44.825,-2.65 -44.075,-2.65 ; -44.825,2.65 -44.075,2.65 ; -42.285,-2.65 -41.535,-2.65 ; -42.285,2.65 -41.535,2.65 ; -39.745,-2.65 -38.995,-2.65 ; -39.745,2.65 -38.995,2.65 ; -37.205,-2.65 -36.455,-2.65 ; -37.205,2.65 -36.455,2.65 ; -34.665,-2.65 -33.915,-2.65 ; -34.665,2.65 -33.915,2.65 ; -32.125,-2.65 -31.375,-2.65 ; -32.125,2.65 -31.375,2.65 ; -29.585,-2.65 -28.835,-2.65 ; -29.585,2.65 -28.835,2.65 ; -27.045,-2.65 -26.295,-2.65 ; -27.045,2.65 -26.295,2.65 ; -24.505,-2.65 -23.755,-2.65 ; -24.505,2.65 -23.755,2.65 ; -21.965,-2.65 -21.215,-2.65 ; -21.965,2.65 -21.215,2.65 ; -19.425,-2.65 -18.675,-2.65 ; -19.425,2.65 -18.675,2.65 ; -16.885,-2.65 -16.135,-2.65 ; -16.885,2.65 -16.135,2.65 ; -14.345,-2.65 -13.595,-2.65 ; -14.345,2.65 -13.595,2.65 ; -11.805,-2.65 -11.055,-2.65 ; -11.805,2.65 -11.055,2.65 ; -9.265,-2.65 -8.515,-2.65 ; -9.265,2.65 -8.515,2.65 ; -6.725,-2.65 -5.975,-2.65 ; -6.725,2.65 -5.975,2.65 ; -4.185,-2.65 -3.435,-2.65 ; -4.185,2.65 -3.435,2.65 ; -1.645,-2.65 -0.895,-2.65 ; -1.645,2.65 -0.895,2.65 ; 0.895,-2.65 1.645,-2.65 ; 0.895,2.65 1.645,2.65 ; 3.435,-2.65 4.185,-2.65 ; 3.435,2.65 4.185,2.65 ; 5.975,-2.65 6.725,-2.65 ; 5.975,2.65 6.725,2.65 ; 8.515,-2.65 9.265,-2.65 ; 8.515,2.65 9.265,2.65 ; 11.055,-2.65 11.805,-2.65 ; 11.055,2.65 11.805,2.65 ; 13.595,-2.65 14.345,-2.65 ; 13.595,2.65 14.345,2.65 ; 16.135,-2.65 16.885,-2.65 ; 16.135,2.65 16.885,2.65 ; 18.675,-2.65 19.425,-2.65 ; 18.675,2.65 19.425,2.65 ; 21.215,-2.65 21.965,-2.65 ; 21.215,2.65 21.965,2.65 ; 23.755,-2.65 24.505,-2.65 ; 23.755,2.65 24.505,2.65 ; 26.295,-2.65 27.045,-2.65 ; 26.295,2.65 27.045,2.65 ; 28.835,-2.65 29.585,-2.65 ; 28.835,2.65 29.585,2.65 ; 31.375,-2.65 32.125,-2.65 ; 31.375,2.65 32.125,2.65 ; 33.915,-2.65 34.665,-2.65 ; 33.915,2.65 34.665,2.65 ; 36.455,-2.65 37.205,-2.65 ; 36.455,2.65 37.205,2.65 ; 38.995,-2.65 39.745,-2.65 ; 38.995,2.65 39.745,2.65 ; 41.535,-2.65 42.285,-2.65 ; 41.535,2.65 42.285,2.65 ; 44.075,-2.65 44.825,-2.65 ; 44.075,2.65 44.825,2.65 ; 46.615,-2.65 47.365,-2.65 ; 46.615,2.65 47.365,2.65 ; 49.155,-2.65 49.905,-2.65 ; 49.155,2.65 49.905,2.65 ; 51.695,-2.65 52.18,-2.65 52.18,2.65 51.695,2.65
Top Assembly:
  lines w0.254: -51.3,2.54 -50.8,1.833 -50.3,2.54 ; -52.07,-2.54 52.07,-2.54 52.07,2.54 -52.07,2.54 -52.07,-2.54
  text "'.Designator'" at -4.047,-2.68 h1
Top Courtyard:
  lines w0.254: -52.57,-4.17 52.57,-4.17 52.57,4.17 -52.57,4.17 -52.57,-4.17
Top Designator:
  text ".Designator" at -7.618,-0.508 h1.52

## Samtec_HLE-141-02-xxx-DV-BE-A_2x41_P2.54mm_Horizontal [mm]
pads (166):
  rect 1.27x1.68 smd: 1(-50.8,2.72) 2(-50.8,-2.72) 3(-48.26,2.72) 4(-48.26,-2.72) 5(-45.72,2.72) 6(-45.72,-2.72) 7(-43.18,2.72) 8(-43.18,-2.72) 9(-40.64,2.72) 10(-40.64,-2.72) 11(-38.1,2.72) 12(-38.1,-2.72) 13(-35.56,2.72) 14(-35.56,-2.72) 15(-33.02,2.72) 16(-33.02,-2.72) 17(-30.48,2.72) 18(-30.48,-2.72) 19(-27.94,2.72) 20(-27.94,-2.72) 21(-25.4,2.72) 22(-25.4,-2.72) 23(-22.86,2.72) 24(-22.86,-2.72) 25(-20.32,2.72) 26(-20.32,-2.72) 27(-17.78,2.72) 28(-17.78,-2.72) 29(-15.24,2.72) 30(-15.24,-2.72) 31(-12.7,2.72) 32(-12.7,-2.72) 33(-10.16,2.72) 34(-10.16,-2.72) 35(-7.62,2.72) 36(-7.62,-2.72) 37(-5.08,2.72) 38(-5.08,-2.72) 39(-2.54,2.72) 40(-2.54,-2.72) 41(0,2.72) 42(0,-2.72) 43(2.54,2.72) 44(2.54,-2.72) 45(5.08,2.72) 46(5.08,-2.72) 47(7.62,2.72) 48(7.62,-2.72) 49(10.16,2.72) 50(10.16,-2.72) 51(12.7,2.72) 52(12.7,-2.72) 53(15.24,2.72) 54(15.24,-2.72) 55(17.78,2.72) 56(17.78,-2.72) 57(20.32,2.72) 58(20.32,-2.72) 59(22.86,2.72) 60(22.86,-2.72) 61(25.4,2.72) 62(25.4,-2.72) 63(27.94,2.72) 64(27.94,-2.72) 65(30.48,2.72) 66(30.48,-2.72) 67(33.02,2.72) 68(33.02,-2.72) 69(35.56,2.72) 70(35.56,-2.72) 71(38.1,2.72) 72(38.1,-2.72) 73(40.64,2.72) 74(40.64,-2.72) 75(43.18,2.72) 76(43.18,-2.72) 77(45.72,2.72) 78(45.72,-2.72) 79(48.26,2.72) 80(48.26,-2.72) 81(50.8,2.72) 82(50.8,-2.72)
  round 0.97 hole 0.97: Un1(-50.8,1.27) Un2(-50.8,-1.27) Un4(-48.26,1.27) Un5(-48.26,-1.27) Un6(-45.72,1.27) Un7(-45.72,-1.27) Un8(-43.18,1.27) Un9(-43.18,-1.27) Un10(-40.64,1.27) Un11(-40.64,-1.27) Un12(-38.1,1.27) Un13(-38.1,-1.27) Un14(-35.56,1.27) Un15(-35.56,-1.27) Un16(-33.02,1.27) Un17(-33.02,-1.27) Un18(-30.48,1.27) Un19(-30.48,-1.27) Un20(-27.94,1.27) Un21(-27.94,-1.27) Un22(-25.4,1.27) Un23(-25.4,-1.27) Un24(-22.86,1.27) Un25(-22.86,-1.27) Un26(-20.32,1.27) Un27(-20.32,-1.27) Un28(-17.78,1.27) Un29(-17.78,-1.27) Un30(-15.24,1.27) Un31(-15.24,-1.27) Un32(-12.7,1.27) Un33(-12.7,-1.27) Un34(-10.16,1.27) Un35(-10.16,-1.27) Un36(-7.62,1.27) Un37(-7.62,-1.27) Un38(-5.08,1.27) Un39(-5.08,-1.27) Un40(-2.54,1.27) Un41(-2.54,-1.27) Un42(0,1.27) Un43(0,-1.27) Un44(2.54,1.27) Un45(2.54,-1.27) Un46(5.08,1.27) Un47(5.08,-1.27) Un48(7.62,1.27) Un49(7.62,-1.27) Un50(10.16,1.27) Un51(10.16,-1.27) Un52(12.7,1.27) Un53(12.7,-1.27) Un54(15.24,1.27) Un55(15.24,-1.27) Un56(17.78,1.27) Un57(17.78,-1.27) Un58(20.32,1.27) Un59(20.32,-1.27) Un60(22.86,1.27) Un61(22.86,-1.27) Un62(25.4,1.27) Un63(25.4,-1.27) Un64(27.94,1.27) Un65(27.94,-1.27) Un66(30.48,1.27) Un67(30.48,-1.27) Un68(33.02,1.27) Un69(33.02,-1.27) Un70(35.56,1.27) Un71(35.56,-1.27) Un72(38.1,1.27) Un73(38.1,-1.27) Un74(40.64,1.27) Un75(40.64,-1.27) Un76(43.18,1.27) Un77(43.18,-1.27) Un78(45.72,1.27) Un79(45.72,-1.27) Un80(48.26,1.27) Un81(48.26,-1.27) Un83(50.8,1.27) Un84(50.8,-1.27)
  round 1.78 hole 1.78: Un3(-49.53,0) Un82(49.53,0)
F.SilkS:
  lines w0.254: -51.695,-2.65 -52.18,-2.65 -52.18,2.65 -51.695,2.65 -51.695,3.56 ; -49.905,-2.65 -49.155,-2.65 ; -49.905,2.65 -49.155,2.65 ; -47.365,-2.65 -46.615,-2.65 ; -47.365,2.65 -46.615,2.65 ; -44.825,-2.65 -44.075,-2.65 ; -44.825,2.65 -44.075,2.65 ; -42.285,-2.65 -41.535,-2.65 ; -42.285,2.65 -41.535,2.65 ; -39.745,-2.65 -38.995,-2.65 ; -39.745,2.65 -38.995,2.65 ; -37.205,-2.65 -36.455,-2.65 ; -37.205,2.65 -36.455,2.65 ; -34.665,-2.65 -33.915,-2.65 ; -34.665,2.65 -33.915,2.65 ; -32.125,-2.65 -31.375,-2.65 ; -32.125,2.65 -31.375,2.65 ; -29.585,-2.65 -28.835,-2.65 ; -29.585,2.65 -28.835,2.65 ; -27.045,-2.65 -26.295,-2.65 ; -27.045,2.65 -26.295,2.65 ; -24.505,-2.65 -23.755,-2.65 ; -24.505,2.65 -23.755,2.65 ; -21.965,-2.65 -21.215,-2.65 ; -21.965,2.65 -21.215,2.65 ; -19.425,-2.65 -18.675,-2.65 ; -19.425,2.65 -18.675,2.65 ; -16.885,-2.65 -16.135,-2.65 ; -16.885,2.65 -16.135,2.65 ; -14.345,-2.65 -13.595,-2.65 ; -14.345,2.65 -13.595,2.65 ; -11.805,-2.65 -11.055,-2.65 ; -11.805,2.65 -11.055,2.65 ; -9.265,-2.65 -8.515,-2.65 ; -9.265,2.65 -8.515,2.65 ; -6.725,-2.65 -5.975,-2.65 ; -6.725,2.65 -5.975,2.65 ; -4.185,-2.65 -3.435,-2.65 ; -4.185,2.65 -3.435,2.65 ; -1.645,-2.65 -0.895,-2.65 ; -1.645,2.65 -0.895,2.65 ; 0.895,-2.65 1.645,-2.65 ; 0.895,2.65 1.645,2.65 ; 3.435,-2.65 4.185,-2.65 ; 3.435,2.65 4.185,2.65 ; 5.975,-2.65 6.725,-2.65 ; 5.975,2.65 6.725,2.65 ; 8.515,-2.65 9.265,-2.65 ; 8.515,2.65 9.265,2.65 ; 11.055,-2.65 11.805,-2.65 ; 11.055,2.65 11.805,2.65 ; 13.595,-2.65 14.345,-2.65 ; 13.595,2.65 14.345,2.65 ; 16.135,-2.65 16.885,-2.65 ; 16.135,2.65 16.885,2.65 ; 18.675,-2.65 19.425,-2.65 ; 18.675,2.65 19.425,2.65 ; 21.215,-2.65 21.965,-2.65 ; 21.215,2.65 21.965,2.65 ; 23.755,-2.65 24.505,-2.65 ; 23.755,2.65 24.505,2.65 ; 26.295,-2.65 27.045,-2.65 ; 26.295,2.65 27.045,2.65 ; 28.835,-2.65 29.585,-2.65 ; 28.835,2.65 29.585,2.65 ; 31.375,-2.65 32.125,-2.65 ; 31.375,2.65 32.125,2.65 ; 33.915,-2.65 34.665,-2.65 ; 33.915,2.65 34.665,2.65 ; 36.455,-2.65 37.205,-2.65 ; 36.455,2.65 37.205,2.65 ; 38.995,-2.65 39.745,-2.65 ; 38.995,2.65 39.745,2.65 ; 41.535,-2.65 42.285,-2.65 ; 41.535,2.65 42.285,2.65 ; 44.075,-2.65 44.825,-2.65 ; 44.075,2.65 44.825,2.65 ; 46.615,-2.65 47.365,-2.65 ; 46.615,2.65 47.365,2.65 ; 49.155,-2.65 49.905,-2.65 ; 49.155,2.65 49.905,2.65 ; 51.695,-2.65 52.18,-2.65 52.18,2.65 51.695,2.65
Top Assembly:
  lines w0.254: -51.3,2.54 -50.8,1.833 -50.3,2.54 ; -52.07,-2.54 52.07,-2.54 52.07,2.54 -52.07,2.54 -52.07,-2.54
  text "'.Designator'" at -4.047,-2.68 h1
Top Courtyard:
  lines w0.254: -52.57,-4.07 52.57,-4.07 52.57,4.07 -52.57,4.07 -52.57,-4.07
Top Designator:
  text ".Designator" at -7.618,-0.508 h1.52

## Samtec_HLE-141-02-xxx-DV-BE-LC_2x41_P2.54mm_Horizontal [mm]
pads (166):
  rect 1.27x1.68 smd: 1(-50.8,2.72) 2(-50.8,-2.72) 3(-48.26,2.72) 4(-48.26,-2.72) 5(-45.72,2.72) 6(-45.72,-2.72) 7(-43.18,2.72) 8(-43.18,-2.72) 9(-40.64,2.72) 10(-40.64,-2.72) 11(-38.1,2.72) 12(-38.1,-2.72) 13(-35.56,2.72) 14(-35.56,-2.72) 15(-33.02,2.72) 16(-33.02,-2.72) 17(-30.48,2.72) 18(-30.48,-2.72) 19(-27.94,2.72) 20(-27.94,-2.72) 21(-25.4,2.72) 22(-25.4,-2.72) 23(-22.86,2.72) 24(-22.86,-2.72) 25(-20.32,2.72) 26(-20.32,-2.72) 27(-17.78,2.72) 28(-17.78,-2.72) 29(-15.24,2.72) 30(-15.24,-2.72) 31(-12.7,2.72) 32(-12.7,-2.72) 33(-10.16,2.72) 34(-10.16,-2.72) 35(-7.62,2.72) 36(-7.62,-2.72) 37(-5.08,2.72) 38(-5.08,-2.72) 39(-2.54,2.72) 40(-2.54,-2.72) 41(0,2.72) 42(0,-2.72) 43(2.54,2.72) 44(2.54,-2.72) 45(5.08,2.72) 46(5.08,-2.72) 47(7.62,2.72) 48(7.62,-2.72) 49(10.16,2.72) 50(10.16,-2.72) 51(12.7,2.72) 52(12.7,-2.72) 53(15.24,2.72) 54(15.24,-2.72) 55(17.78,2.72) 56(17.78,-2.72) 57(20.32,2.72) 58(20.32,-2.72) 59(22.86,2.72) 60(22.86,-2.72) 61(25.4,2.72) 62(25.4,-2.72) 63(27.94,2.72) 64(27.94,-2.72) 65(30.48,2.72) 66(30.48,-2.72) 67(33.02,2.72) 68(33.02,-2.72) 69(35.56,2.72) 70(35.56,-2.72) 71(38.1,2.72) 72(38.1,-2.72) 73(40.64,2.72) 74(40.64,-2.72) 75(43.18,2.72) 76(43.18,-2.72) 77(45.72,2.72) 78(45.72,-2.72) 79(48.26,2.72) 80(48.26,-2.72) 81(50.8,2.72) 82(50.8,-2.72)
  round 0.97 hole 0.97: Un1(-50.8,1.27) Un2(-50.8,-1.27) Un4(-48.26,1.27) Un5(-48.26,-1.27) Un6(-45.72,1.27) Un7(-45.72,-1.27) Un8(-43.18,1.27) Un9(-43.18,-1.27) Un10(-40.64,1.27) Un11(-40.64,-1.27) Un12(-38.1,1.27) Un13(-38.1,-1.27) Un14(-35.56,1.27) Un15(-35.56,-1.27) Un16(-33.02,1.27) Un17(-33.02,-1.27) Un18(-30.48,1.27) Un19(-30.48,-1.27) Un20(-27.94,1.27) Un21(-27.94,-1.27) Un22(-25.4,1.27) Un23(-25.4,-1.27) Un24(-22.86,1.27) Un25(-22.86,-1.27) Un26(-20.32,1.27) Un27(-20.32,-1.27) Un28(-17.78,1.27) Un29(-17.78,-1.27) Un30(-15.24,1.27) Un31(-15.24,-1.27) Un32(-12.7,1.27) Un33(-12.7,-1.27) Un34(-10.16,1.27) Un35(-10.16,-1.27) Un36(-7.62,1.27) Un37(-7.62,-1.27) Un38(-5.08,1.27) Un39(-5.08,-1.27) Un40(-2.54,1.27) Un41(-2.54,-1.27) Un42(0,1.27) Un43(0,-1.27) Un44(2.54,1.27) Un45(2.54,-1.27) Un46(5.08,1.27) Un47(5.08,-1.27) Un48(7.62,1.27) Un49(7.62,-1.27) Un50(10.16,1.27) Un51(10.16,-1.27) Un52(12.7,1.27) Un53(12.7,-1.27) Un54(15.24,1.27) Un55(15.24,-1.27) Un56(17.78,1.27) Un57(17.78,-1.27) Un58(20.32,1.27) Un59(20.32,-1.27) Un60(22.86,1.27) Un61(22.86,-1.27) Un62(25.4,1.27) Un63(25.4,-1.27) Un64(27.94,1.27) Un65(27.94,-1.27) Un66(30.48,1.27) Un67(30.48,-1.27) Un68(33.02,1.27) Un69(33.02,-1.27) Un70(35.56,1.27) Un71(35.56,-1.27) Un72(38.1,1.27) Un73(38.1,-1.27) Un74(40.64,1.27) Un75(40.64,-1.27) Un76(43.18,1.27) Un77(43.18,-1.27) Un78(45.72,1.27) Un79(45.72,-1.27) Un80(48.26,1.27) Un81(48.26,-1.27) Un83(50.8,1.27) Un84(50.8,-1.27)
  round 1.19 hole 1.19: Un3(-49.53,0) Un82(49.53,0)
F.SilkS:
  lines w0.254: -51.695,-2.65 -52.18,-2.65 -52.18,2.65 -51.695,2.65 -51.695,3.56 ; -49.905,-2.65 -49.155,-2.65 ; -49.905,2.65 -49.155,2.65 ; -47.365,-2.65 -46.615,-2.65 ; -47.365,2.65 -46.615,2.65 ; -44.825,-2.65 -44.075,-2.65 ; -44.825,2.65 -44.075,2.65 ; -42.285,-2.65 -41.535,-2.65 ; -42.285,2.65 -41.535,2.65 ; -39.745,-2.65 -38.995,-2.65 ; -39.745,2.65 -38.995,2.65 ; -37.205,-2.65 -36.455,-2.65 ; -37.205,2.65 -36.455,2.65 ; -34.665,-2.65 -33.915,-2.65 ; -34.665,2.65 -33.915,2.65 ; -32.125,-2.65 -31.375,-2.65 ; -32.125,2.65 -31.375,2.65 ; -29.585,-2.65 -28.835,-2.65 ; -29.585,2.65 -28.835,2.65 ; -27.045,-2.65 -26.295,-2.65 ; -27.045,2.65 -26.295,2.65 ; -24.505,-2.65 -23.755,-2.65 ; -24.505,2.65 -23.755,2.65 ; -21.965,-2.65 -21.215,-2.65 ; -21.965,2.65 -21.215,2.65 ; -19.425,-2.65 -18.675,-2.65 ; -19.425,2.65 -18.675,2.65 ; -16.885,-2.65 -16.135,-2.65 ; -16.885,2.65 -16.135,2.65 ; -14.345,-2.65 -13.595,-2.65 ; -14.345,2.65 -13.595,2.65 ; -11.805,-2.65 -11.055,-2.65 ; -11.805,2.65 -11.055,2.65 ; -9.265,-2.65 -8.515,-2.65 ; -9.265,2.65 -8.515,2.65 ; -6.725,-2.65 -5.975,-2.65 ; -6.725,2.65 -5.975,2.65 ; -4.185,-2.65 -3.435,-2.65 ; -4.185,2.65 -3.435,2.65 ; -1.645,-2.65 -0.895,-2.65 ; -1.645,2.65 -0.895,2.65 ; 0.895,-2.65 1.645,-2.65 ; 0.895,2.65 1.645,2.65 ; 3.435,-2.65 4.185,-2.65 ; 3.435,2.65 4.185,2.65 ; 5.975,-2.65 6.725,-2.65 ; 5.975,2.65 6.725,2.65 ; 8.515,-2.65 9.265,-2.65 ; 8.515,2.65 9.265,2.65 ; 11.055,-2.65 11.805,-2.65 ; 11.055,2.65 11.805,2.65 ; 13.595,-2.65 14.345,-2.65 ; 13.595,2.65 14.345,2.65 ; 16.135,-2.65 16.885,-2.65 ; 16.135,2.65 16.885,2.65 ; 18.675,-2.65 19.425,-2.65 ; 18.675,2.65 19.425,2.65 ; 21.215,-2.65 21.965,-2.65 ; 21.215,2.65 21.965,2.65 ; 23.755,-2.65 24.505,-2.65 ; 23.755,2.65 24.505,2.65 ; 26.295,-2.65 27.045,-2.65 ; 26.295,2.65 27.045,2.65 ; 28.835,-2.65 29.585,-2.65 ; 28.835,2.65 29.585,2.65 ; 31.375,-2.65 32.125,-2.65 ; 31.375,2.65 32.125,2.65 ; 33.915,-2.65 34.665,-2.65 ; 33.915,2.65 34.665,2.65 ; 36.455,-2.65 37.205,-2.65 ; 36.455,2.65 37.205,2.65 ; 38.995,-2.65 39.745,-2.65 ; 38.995,2.65 39.745,2.65 ; 41.535,-2.65 42.285,-2.65 ; 41.535,2.65 42.285,2.65 ; 44.075,-2.65 44.825,-2.65 ; 44.075,2.65 44.825,2.65 ; 46.615,-2.65 47.365,-2.65 ; 46.615,2.65 47.365,2.65 ; 49.155,-2.65 49.905,-2.65 ; 49.155,2.65 49.905,2.65 ; 51.695,-2.65 52.18,-2.65 52.18,2.65 51.695,2.65
Top Assembly:
  lines w0.254: -51.3,2.54 -50.8,1.833 -50.3,2.54 ; -52.07,-2.54 52.07,-2.54 52.07,2.54 -52.07,2.54 -52.07,-2.54
  text "'.Designator'" at -4.047,-2.68 h1
Top Courtyard:
  lines w0.254: -52.57,-4.07 52.57,-4.07 52.57,4.07 -52.57,4.07 -52.57,-4.07
Top Designator:
  text ".Designator" at -7.618,-0.508 h1.52

## Samtec_HLE-141-02-xxx-DV-BE_2x41_P2.54mm_Horizontal [mm]
pads (164):
  rect 1.27x1.68 smd: 1(-50.8,2.72) 2(-50.8,-2.72) 3(-48.26,2.72) 4(-48.26,-2.72) 5(-45.72,2.72) 6(-45.72,-2.72) 7(-43.18,2.72) 8(-43.18,-2.72) 9(-40.64,2.72) 10(-40.64,-2.72) 11(-38.1,2.72) 12(-38.1,-2.72) 13(-35.56,2.72) 14(-35.56,-2.72) 15(-33.02,2.72) 16(-33.02,-2.72) 17(-30.48,2.72) 18(-30.48,-2.72) 19(-27.94,2.72) 20(-27.94,-2.72) 21(-25.4,2.72) 22(-25.4,-2.72) 23(-22.86,2.72) 24(-22.86,-2.72) 25(-20.32,2.72) 26(-20.32,-2.72) 27(-17.78,2.72) 28(-17.78,-2.72) 29(-15.24,2.72) 30(-15.24,-2.72) 31(-12.7,2.72) 32(-12.7,-2.72) 33(-10.16,2.72) 34(-10.16,-2.72) 35(-7.62,2.72) 36(-7.62,-2.72) 37(-5.08,2.72) 38(-5.08,-2.72) 39(-2.54,2.72) 40(-2.54,-2.72) 41(0,2.72) 42(0,-2.72) 43(2.54,2.72) 44(2.54,-2.72) 45(5.08,2.72) 46(5.08,-2.72) 47(7.62,2.72) 48(7.62,-2.72) 49(10.16,2.72) 50(10.16,-2.72) 51(12.7,2.72) 52(12.7,-2.72) 53(15.24,2.72) 54(15.24,-2.72) 55(17.78,2.72) 56(17.78,-2.72) 57(20.32,2.72) 58(20.32,-2.72) 59(22.86,2.72) 60(22.86,-2.72) 61(25.4,2.72) 62(25.4,-2.72) 63(27.94,2.72) 64(27.94,-2.72) 65(30.48,2.72) 66(30.48,-2.72) 67(33.02,2.72) 68(33.02,-2.72) 69(35.56,2.72) 70(35.56,-2.72) 71(38.1,2.72) 72(38.1,-2.72) 73(40.64,2.72) 74(40.64,-2.72) 75(43.18,2.72) 76(43.18,-2.72) 77(45.72,2.72) 78(45.72,-2.72) 79(48.26,2.72) 80(48.26,-2.72) 81(50.8,2.72) 82(50.8,-2.72)
  round 0.97 hole 0.97: Un1(-50.8,1.27) Un2(-50.8,-1.27) Un3(-48.26,1.27) Un4(-48.26,-1.27) Un5(-45.72,1.27) Un6(-45.72,-1.27) Un7(-43.18,1.27) Un8(-43.18,-1.27) Un9(-40.64,1.27) Un10(-40.64,-1.27) Un11(-38.1,1.27) Un12(-38.1,-1.27) Un13(-35.56,1.27) Un14(-35.56,-1.27) Un15(-33.02,1.27) Un16(-33.02,-1.27) Un17(-30.48,1.27) Un18(-30.48,-1.27) Un19(-27.94,1.27) Un20(-27.94,-1.27) Un21(-25.4,1.27) Un22(-25.4,-1.27) Un23(-22.86,1.27) Un24(-22.86,-1.27) Un25(-20.32,1.27) Un26(-20.32,-1.27) Un27(-17.78,1.27) Un28(-17.78,-1.27) Un29(-15.24,1.27) Un30(-15.24,-1.27) Un31(-12.7,1.27) Un32(-12.7,-1.27) Un33(-10.16,1.27) Un34(-10.16,-1.27) Un35(-7.62,1.27) Un36(-7.62,-1.27) Un37(-5.08,1.27) Un38(-5.08,-1.27) Un39(-2.54,1.27) Un40(-2.54,-1.27) Un41(0,1.27) Un42(0,-1.27) Un43(2.54,1.27) Un44(2.54,-1.27) Un45(5.08,1.27) Un46(5.08,-1.27) Un47(7.62,1.27) Un48(7.62,-1.27) Un49(10.16,1.27) Un50(10.16,-1.27) Un51(12.7,1.27) Un52(12.7,-1.27) Un53(15.24,1.27) Un54(15.24,-1.27) Un55(17.78,1.27) Un56(17.78,-1.27) Un57(20.32,1.27) Un58(20.32,-1.27) Un59(22.86,1.27) Un60(22.86,-1.27) Un61(25.4,1.27) Un62(25.4,-1.27) Un63(27.94,1.27) Un64(27.94,-1.27) Un65(30.48,1.27) Un66(30.48,-1.27) Un67(33.02,1.27) Un68(33.02,-1.27) Un69(35.56,1.27) Un70(35.56,-1.27) Un71(38.1,1.27) Un72(38.1,-1.27) Un73(40.64,1.27) Un74(40.64,-1.27) Un75(43.18,1.27) Un76(43.18,-1.27) Un77(45.72,1.27) Un78(45.72,-1.27) Un79(48.26,1.27) Un80(48.26,-1.27) Un81(50.8,1.27) Un82(50.8,-1.27)
F.SilkS:
  lines w0.254: -51.695,-2.65 -52.18,-2.65 -52.18,2.65 -51.695,2.65 -51.695,3.56 ; -49.905,-2.65 -49.155,-2.65 ; -49.905,2.65 -49.155,2.65 ; -47.365,-2.65 -46.615,-2.65 ; -47.365,2.65 -46.615,2.65 ; -44.825,-2.65 -44.075,-2.65 ; -44.825,2.65 -44.075,2.65 ; -42.285,-2.65 -41.535,-2.65 ; -42.285,2.65 -41.535,2.65 ; -39.745,-2.65 -38.995,-2.65 ; -39.745,2.65 -38.995,2.65 ; -37.205,-2.65 -36.455,-2.65 ; -37.205,2.65 -36.455,2.65 ; -34.665,-2.65 -33.915,-2.65 ; -34.665,2.65 -33.915,2.65 ; -32.125,-2.65 -31.375,-2.65 ; -32.125,2.65 -31.375,2.65 ; -29.585,-2.65 -28.835,-2.65 ; -29.585,2.65 -28.835,2.65 ; -27.045,-2.65 -26.295,-2.65 ; -27.045,2.65 -26.295,2.65 ; -24.505,-2.65 -23.755,-2.65 ; -24.505,2.65 -23.755,2.65 ; -21.965,-2.65 -21.215,-2.65 ; -21.965,2.65 -21.215,2.65 ; -19.425,-2.65 -18.675,-2.65 ; -19.425,2.65 -18.675,2.65 ; -16.885,-2.65 -16.135,-2.65 ; -16.885,2.65 -16.135,2.65 ; -14.345,-2.65 -13.595,-2.65 ; -14.345,2.65 -13.595,2.65 ; -11.805,-2.65 -11.055,-2.65 ; -11.805,2.65 -11.055,2.65 ; -9.265,-2.65 -8.515,-2.65 ; -9.265,2.65 -8.515,2.65 ; -6.725,-2.65 -5.975,-2.65 ; -6.725,2.65 -5.975,2.65 ; -4.185,-2.65 -3.435,-2.65 ; -4.185,2.65 -3.435,2.65 ; -1.645,-2.65 -0.895,-2.65 ; -1.645,2.65 -0.895,2.65 ; 0.895,-2.65 1.645,-2.65 ; 0.895,2.65 1.645,2.65 ; 3.435,-2.65 4.185,-2.65 ; 3.435,2.65 4.185,2.65 ; 5.975,-2.65 6.725,-2.65 ; 5.975,2.65 6.725,2.65 ; 8.515,-2.65 9.265,-2.65 ; 8.515,2.65 9.265,2.65 ; 11.055,-2.65 11.805,-2.65 ; 11.055,2.65 11.805,2.65 ; 13.595,-2.65 14.345,-2.65 ; 13.595,2.65 14.345,2.65 ; 16.135,-2.65 16.885,-2.65 ; 16.135,2.65 16.885,2.65 ; 18.675,-2.65 19.425,-2.65 ; 18.675,2.65 19.425,2.65 ; 21.215,-2.65 21.965,-2.65 ; 21.215,2.65 21.965,2.65 ; 23.755,-2.65 24.505,-2.65 ; 23.755,2.65 24.505,2.65 ; 26.295,-2.65 27.045,-2.65 ; 26.295,2.65 27.045,2.65 ; 28.835,-2.65 29.585,-2.65 ; 28.835,2.65 29.585,2.65 ; 31.375,-2.65 32.125,-2.65 ; 31.375,2.65 32.125,2.65 ; 33.915,-2.65 34.665,-2.65 ; 33.915,2.65 34.665,2.65 ; 36.455,-2.65 37.205,-2.65 ; 36.455,2.65 37.205,2.65 ; 38.995,-2.65 39.745,-2.65 ; 38.995,2.65 39.745,2.65 ; 41.535,-2.65 42.285,-2.65 ; 41.535,2.65 42.285,2.65 ; 44.075,-2.65 44.825,-2.65 ; 44.075,2.65 44.825,2.65 ; 46.615,-2.65 47.365,-2.65 ; 46.615,2.65 47.365,2.65 ; 49.155,-2.65 49.905,-2.65 ; 49.155,2.65 49.905,2.65 ; 51.695,-2.65 52.18,-2.65 52.18,2.65 51.695,2.65
Top Assembly:
  lines w0.254: -51.3,2.54 -50.8,1.833 -50.3,2.54 ; -52.07,-2.54 52.07,-2.54 52.07,2.54 -52.07,2.54 -52.07,-2.54
  text "'.Designator'" at -4.047,-2.68 h1
Top Courtyard:
  lines w0.254: -52.57,-4.07 52.57,-4.07 52.57,4.07 -52.57,4.07 -52.57,-4.07
Top Designator:
  text ".Designator" at -7.618,-0.508 h1.52